# Altium schematic symbol library LD39020ADTPU18R.SchLib: 1 symbol
Pins are listed as number, name and electrical type; pins without a type are passive.

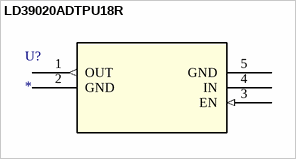
[diagram p0: symbol LD39020ADTPU18R]

## LD39020ADTPU18R
designator U?
No Description Available; Mfr_Name: STMicroelectronics; RefDes: RefDes; Type: Type
footprint LD3
pins: 1 OUT (out), 2 GND (power), 3 EN (in), 4 IN (power), 5 GND (power)